# Altium footprint library DIP20.PcbLib: 1 footprints
Each footprint in its own frame and in the unit in brackets; x right, y up, seen from the top. Pads: shape width x height; smd on the part's side, far side on the other; paste and mask are expansions set on the pad; w line width, h text height; cw(c..) or ccw(c..) is an arc to the next point about the centre after c.
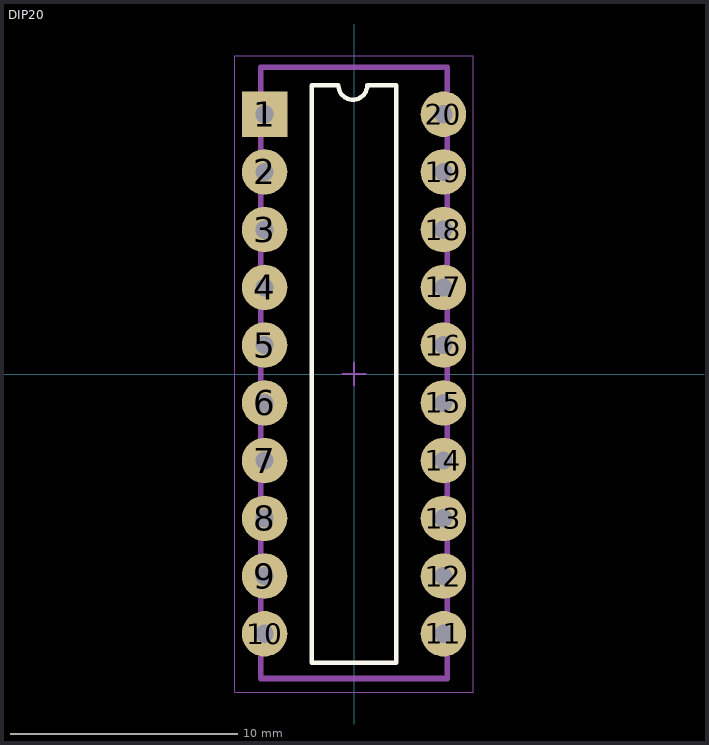
[diagram p0: the footprint, top view; thin cyan lines are the x and y axes]

## DIP20 [mm]
pads (20):
  rect 2x2 hole 0.8: 1(-3.937,11.43)
  round 2 hole 0.8: 2(-3.937,8.89) 3(-3.937,6.35) 4(-3.937,3.81) 5(-3.937,1.27) 6(-3.937,-1.27) 7(-3.937,-3.81) 8(-3.937,-6.35) 9(-3.937,-8.89) 10(-3.937,-11.43) 11(3.937,-11.43) 12(3.937,-8.89) 13(3.937,-6.35) 14(3.937,-3.81) 15(3.937,-1.27) 16(3.937,1.27) 17(3.937,3.81) 18(3.937,6.35) 19(3.937,8.89) 20(3.937,11.43)
Top Overlay:
  lines w0.2: -0.762,12.7 -1.852,12.7 -1.852,-12.7 1.852,-12.7 1.852,12.7 0.635,12.7 ; -0.687,12.704 ccw(c-0.052,12.704) 0.583,12.704
Top Assembly:
  lines w0.254: -4.1,-13.4 -4.1,13.5 4.1,13.5 4.1,-13.4 -4.1,-13.4
Top Courtyard:
  lines w0.05: -5.25,-14 5.25,-14 5.25,14 -5.25,14 -5.25,-14
  lines w0.1: -0.5,0 0.5,0 ; 0,-0.5 0,0.5
Top Designator:
  text ".Designator" at -7.618,-0.508 h1.52
3D body "N20_TEX.step": height 5.21, standoff -2.54, extent -4.028,-13.424 4.1,13.5